# Altium footprint library Трансформаторы.PcbLib: 12 footprints
Each footprint in its own frame and in the unit in brackets; x right, y up, seen from the top. Pads: shape width x height; smd on the part's side, far side on the other; paste and mask are expansions set on the pad; w line width, h text height; cw(c..) or ccw(c..) is an arc to the next point about the centre after c.
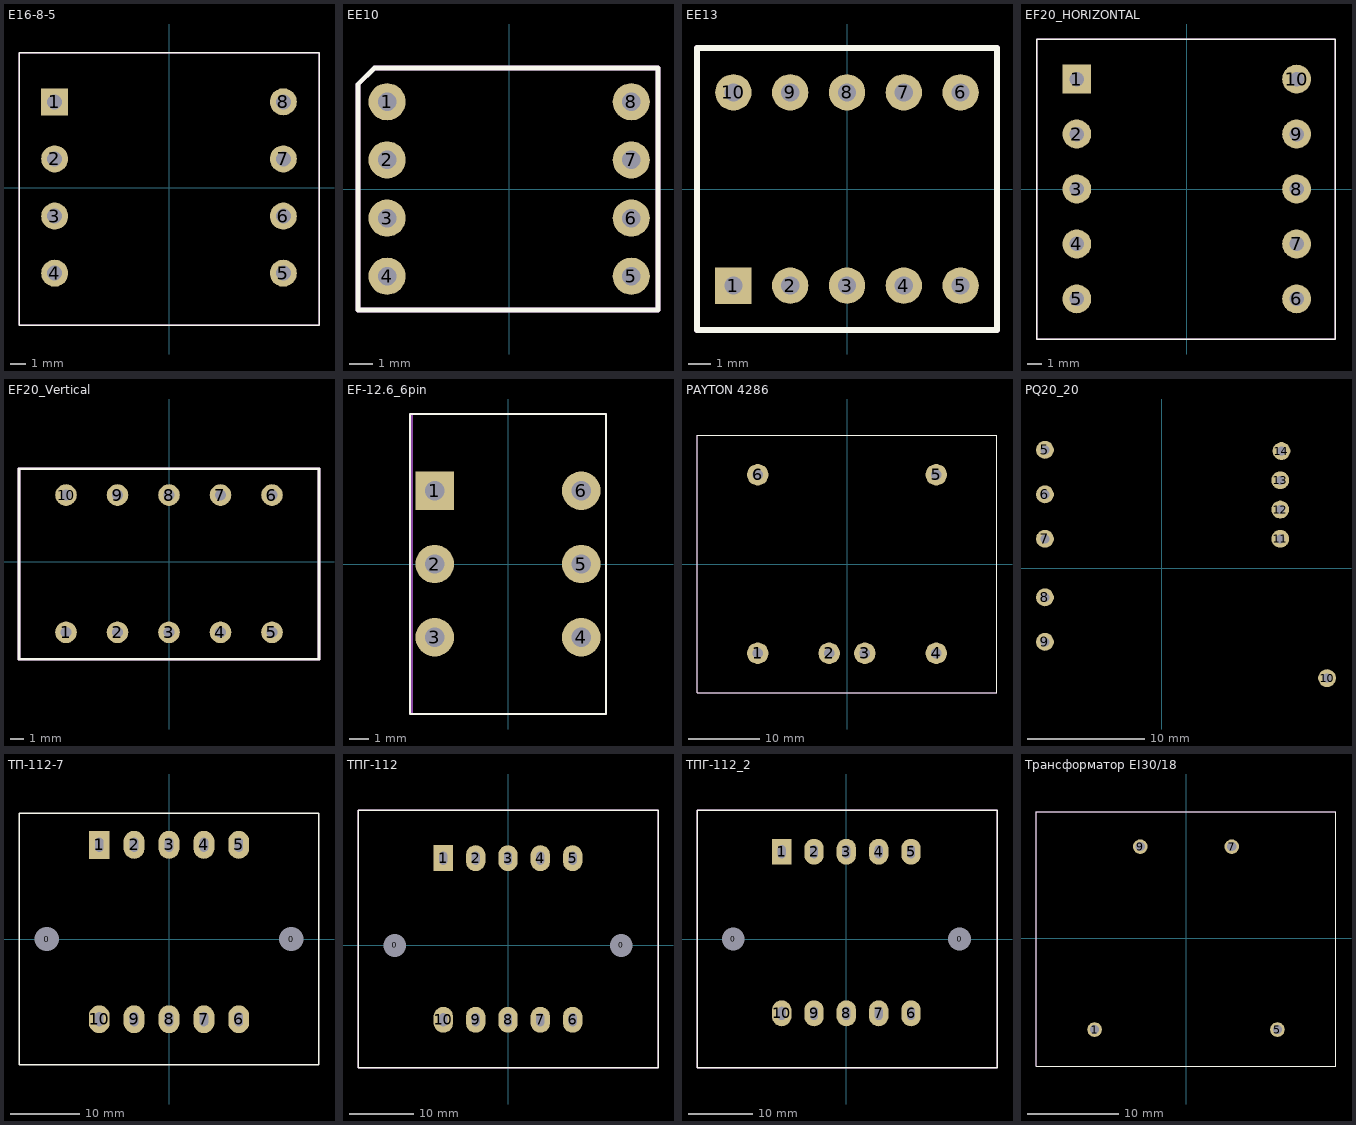
[diagram p0: the footprints below, top view; thin cyan lines are the x and y axes]

## E16-8-5 [mm]
pads (8):
  rect 1.8x1.8 hole 1: 1(-7.62,5.715)
  round 1.8 hole 1: 2(-7.62,1.905) 3(-7.62,-1.905) 4(-7.62,-5.715) 5(7.62,-5.715) 6(7.62,-1.905) 7(7.62,1.905) 8(7.62,5.715)
Top Overlay:
  lines w0.1: -10,-9.2 -10,9 10,9 10,-9.2 -10,-9.2
ASSEMBLY_TOP:
  lines w0.1: -10,-9.2 -10,9 10,9 10,-9.2 -10,-9.2
  text ".Designator" at -3.1,-0.5 h1.52
3D body "E16-8-5.STEP": height 14.77, standoff -1.93, extent -10,-9.151 10,9.011

## EE10 [mm]
pads (8):
  round 1.6 hole 0.8: 1(-5.25,3.75) 2(-5.25,1.25) 3(-5.25,-1.25) 4(-5.25,-3.75) 5(5.25,-3.75) 6(5.25,-1.25) 7(5.25,1.25) 8(5.25,3.75)
Top Overlay:
  lines w0.2: -6.5,-5.2 -6.5,4.5 -5.8,5.2 6.4,5.2 6.4,-5.2 -6.5,-5.2
ASSEMBLY_TOP:
  lines w0.2: -6.5,-5.2 -6.5,4.5 -5.8,5.2 6.4,5.2 6.4,-5.2 -6.5,-5.2
  text ".Designator" at -1.9,0.2 h1.52
3D body "User Library-ee10-1.step": height 10.55, standoff -2, extent -6.25,-5 6.25,5

## EE13 [mm]
pads (10):
  rect 1.6x1.6 hole 0.8: 1(-5,-4.25)
  round 1.6 hole 0.8: 2(-2.5,-4.25) 3(0,-4.25) 4(2.5,-4.25) 5(5,-4.25) 6(5,4.25) 7(2.5,4.25) 8(0,4.25) 9(-2.5,4.25) 10(-5,4.25)
Top Overlay:
  lines w0.254: -6.6,-6.2 6.6,-6.2 6.6,6.2 -6.6,6.2 -6.6,-6.2
ASSEMBLY_TOP:
  lines w0.254: -6.6,-6.2 6.6,-6.2 6.6,6.2 -6.6,6.2 -6.6,-6.2
  text ".Designator" at -2.7,-0.3 h1.52
3D body "EE13-T304.step": height 11.88, standoff -4.67, extent -6.61,-6.2 6.61,6.2

## EF20_HORIZONTAL [mm]
pads (10):
  rect 2x2 hole 1: 1(-7.62,7.62)
  round 2 hole 1: 2(-7.62,3.81) 3(-7.62,0) 4(-7.62,-3.81) 5(-7.62,-7.62) 6(7.62,-7.62) 7(7.62,-3.81) 8(7.62,0) 9(7.62,3.81) 10(7.62,7.62)
Top Overlay:
  lines w0.1: -10.4,-10.4 10.3,-10.4 10.3,10.4 -10.4,10.4 -10.4,-10.4
ASSEMBLY_TOP:
  lines w0.1: -10.4,-10.4 -10.4,10.4 10.3,10.4 10.3,-10.4 -10.4,-10.4
  text ".Designator" at -3.1,1.1 h1.52
3D body "User Library-EF20_5+5.STEP": height 14.74, standoff -1.86, extent -10.34,-10.25 10.16,10.25

## EF20_Vertical [mm]
pads (10):
  round 1.6 hole 0.8: 1(-7.62,-5.207) 2(-3.81,-5.207) 3(0,-5.207) 4(3.81,-5.207) 5(7.62,-5.207) 6(7.62,4.953) 7(3.81,4.953) 8(0,4.953) 9(-3.81,4.953) 10(-7.62,4.953)
Top Overlay:
  lines w0.2: -11.1,-7.2 11.1,-7.2 11.1,6.9 -11.1,6.9 -11.1,-7.2
ASSEMBLY_TOP:
  lines w0.2: -11.1,6.8 -11.1,6.9 ; -11.1,6.9 11.1,6.9 11.1,-7.2 -11.1,-7.2 -11.1,6.9
  text ".Designator" at -2.7,-1 h1.52
3D body "User Library-EF20_VERTICAL.STEP": height 23.45, standoff -1.5, extent -11,-7.112 11,6.788

## EF-12.6_6pin [mm]
pads (6):
  rect 2x2 hole 1: 1(-3.81,3.81)
  round 2 hole 1: 2(-3.81,0) 3(-3.81,-3.81) 4(3.81,-3.81) 5(3.81,0) 6(3.81,3.81)
Top Overlay:
  lines w0.1: -5.1,-7.8 5.1,-7.8 5.1,7.8 -5.1,7.8 -5.1,-7.8
ASSEMBLY_TOP:
  lines w0.1: -5,-7.8 -5,7.8 5.1,7.8 5.1,-7.8 -5,-7.8
  text ".Designator" at -3.1,1.1 h1.52
3D body "E13_V.stp": height 15.93, standoff -3.5, extent -5,-7.707 5,7.708

## PAYTON 4286 [mm]
pads (6):
  round 3 hole 1.5: 1(-12.5,-12.5) 2(-2.5,-12.5) 3(2.5,-12.5) 4(12.5,-12.5) 5(12.5,12.5) 6(-12.5,12.5)
Top Overlay:
  lines w0.1: -21,-18 21,-18 21,18 -21,18 -21,-18
ASSEMBLY_TOP:
  lines w0.1: -21,-18 -21,18 21,18 21,-18 -21,-18
  text ".Designator" at -4.5,-0.5 h1.52
3D body "PAYTON 4286.stp": height 32, standoff -3, extent -21,-18 21,18

## PQ20_20 [mil]
pads (10):
  round 60 hole 30: 5(-393.7,397.64) 6(-393.7,248.03) 7(-393.7,98.43) 8(-393.7,-98.43) 9(-393.7,-248.03) 10(555.12,-370.08) 11(397.64,98.43) 12(397.64,196.85) 13(397.64,295.28) 14(401.57,393.7)
3D body "PQ_20_20.STEP": height 840.55, standoff -173.23, extent -455.71,-455.71 455.71,455.71

## ТП-112-7 [mm]
pads (12):
  round 1.524 hole 3.5 unplated: 0(-17.5,0) 0(17.5,0)
  rect 3x4 hole 1.2 slot 2 at 90 deg: 1(-10,13.5)
  oval 3x4 hole 1.2 slot 2 at 90 deg: 2(-5,13.5) 3(0,13.5) 4(5,13.5) 5(10,13.5) 6(10,-11.5) 7(5,-11.5) 8(0,-11.5) 9(-5,-11.5) 10(-10,-11.5)
Top Overlay:
  lines w0.2: -21.5,-18 21.5,-18 21.5,18 -21.5,18 -21.5,-18
ASSEMBLY_TOP:
  text ".Designator" at -4.4,-0.6 h1.52
3D body "Трансформатор ТП-112-7.STEP": height 40, standoff -4, extent -21.5,-18 21.5,18

## ТПГ-112 [mm]
pads (12):
  round 1.524 hole 3.5 unplated: 0(-17.5,0) 0(17.5,0)
  rect 3x4 hole 1.2 slot 2 at 90 deg: 1(-10,13.5)
  oval 3x4 hole 1.2 slot 2 at 90 deg: 2(-5,13.5) 3(0,13.5) 4(5,13.5) 5(10,13.5) 6(10,-11.5) 7(5,-11.5) 8(0,-11.5) 9(-5,-11.5) 10(-10,-11.5)
Top Overlay:
  lines w0.2: -23.2,-18.9 23.2,-18.9 23.2,20.9 -23.2,20.9 -23.2,-18.9
ASSEMBLY_TOP:
  lines w0.2: -23.2,-18.9 23.2,-18.9 ; -23.2,-18.9 -23.2,20.9 ; -23.2,-18.9 23.2,-18.9 ; -23.2,-18.9 -23.2,20.9 ; -23.2,20.9 23.2,20.9 ; -23.2,20.9 23.2,20.9 ; 23.2,-18.9 23.2,20.9 ; 23.2,-18.9 23.2,20.9
  text ".Designator" at -4.4,-0.5 h1.52
3D body "User Library-TPG-112.STEP": height 41, standoff -5, extent -23.2,-18.85 23.2,20.85

## ТПГ-112_2 [mm]
pads (12):
  round 1.524 hole 3.5 unplated: 0(-17.5,0) 0(17.5,0)
  rect 3x4 hole 1.2 slot 2 at 90 deg: 1(-10,13.5)
  oval 3x4 hole 1.2 slot 2 at 90 deg: 2(-5,13.5) 3(0,13.5) 4(5,13.5) 5(10,13.5) 6(10,-11.5) 7(5,-11.5) 8(0,-11.5) 9(-5,-11.5) 10(-10,-11.5)
Top Overlay:
  lines w0.2: -23.1,-19.9 -23.1,19.9 23.3,19.9 23.3,-19.9 -23.1,-19.9
ASSEMBLY_TOP:
  lines w0.2: -23.1,-19.9 23.3,-19.9 23.3,19.9 -23.1,19.9 -23.1,-19.9
  text ".Designator" at -4.6,-1.3 h1.52
3D body "Трансформатор ТПГ-112 (2х12В).stp": height 41, standoff -5, extent -23.173,-19.822 23.172,19.822

## Трансформатор EI30/18 [mm]
pads (4):
  round 1.6 hole 1: 1(-10,-10) 5(10,-10) 7(5,10) 9(-5,10)
Top Overlay:
  lines w0.1: -16.4,-14 -16.4,13.8 16.4,13.8 16.4,-14 -16.4,-14
ASSEMBLY_TOP:
  lines w0.1: -16.4,-14 -16.4,13.8 16.4,13.8 16.4,-14 -16.4,-14
  text ".Designator" at -3.7,-0.6 h1.52
3D body "UC30S-2-10012-18.stp": height 29.8, standoff -4, extent -16.4,-14 16.4,13.8